# Altium schematic symbol library BRT_Components.SchLib: 323 symbols (part 4 of 4)
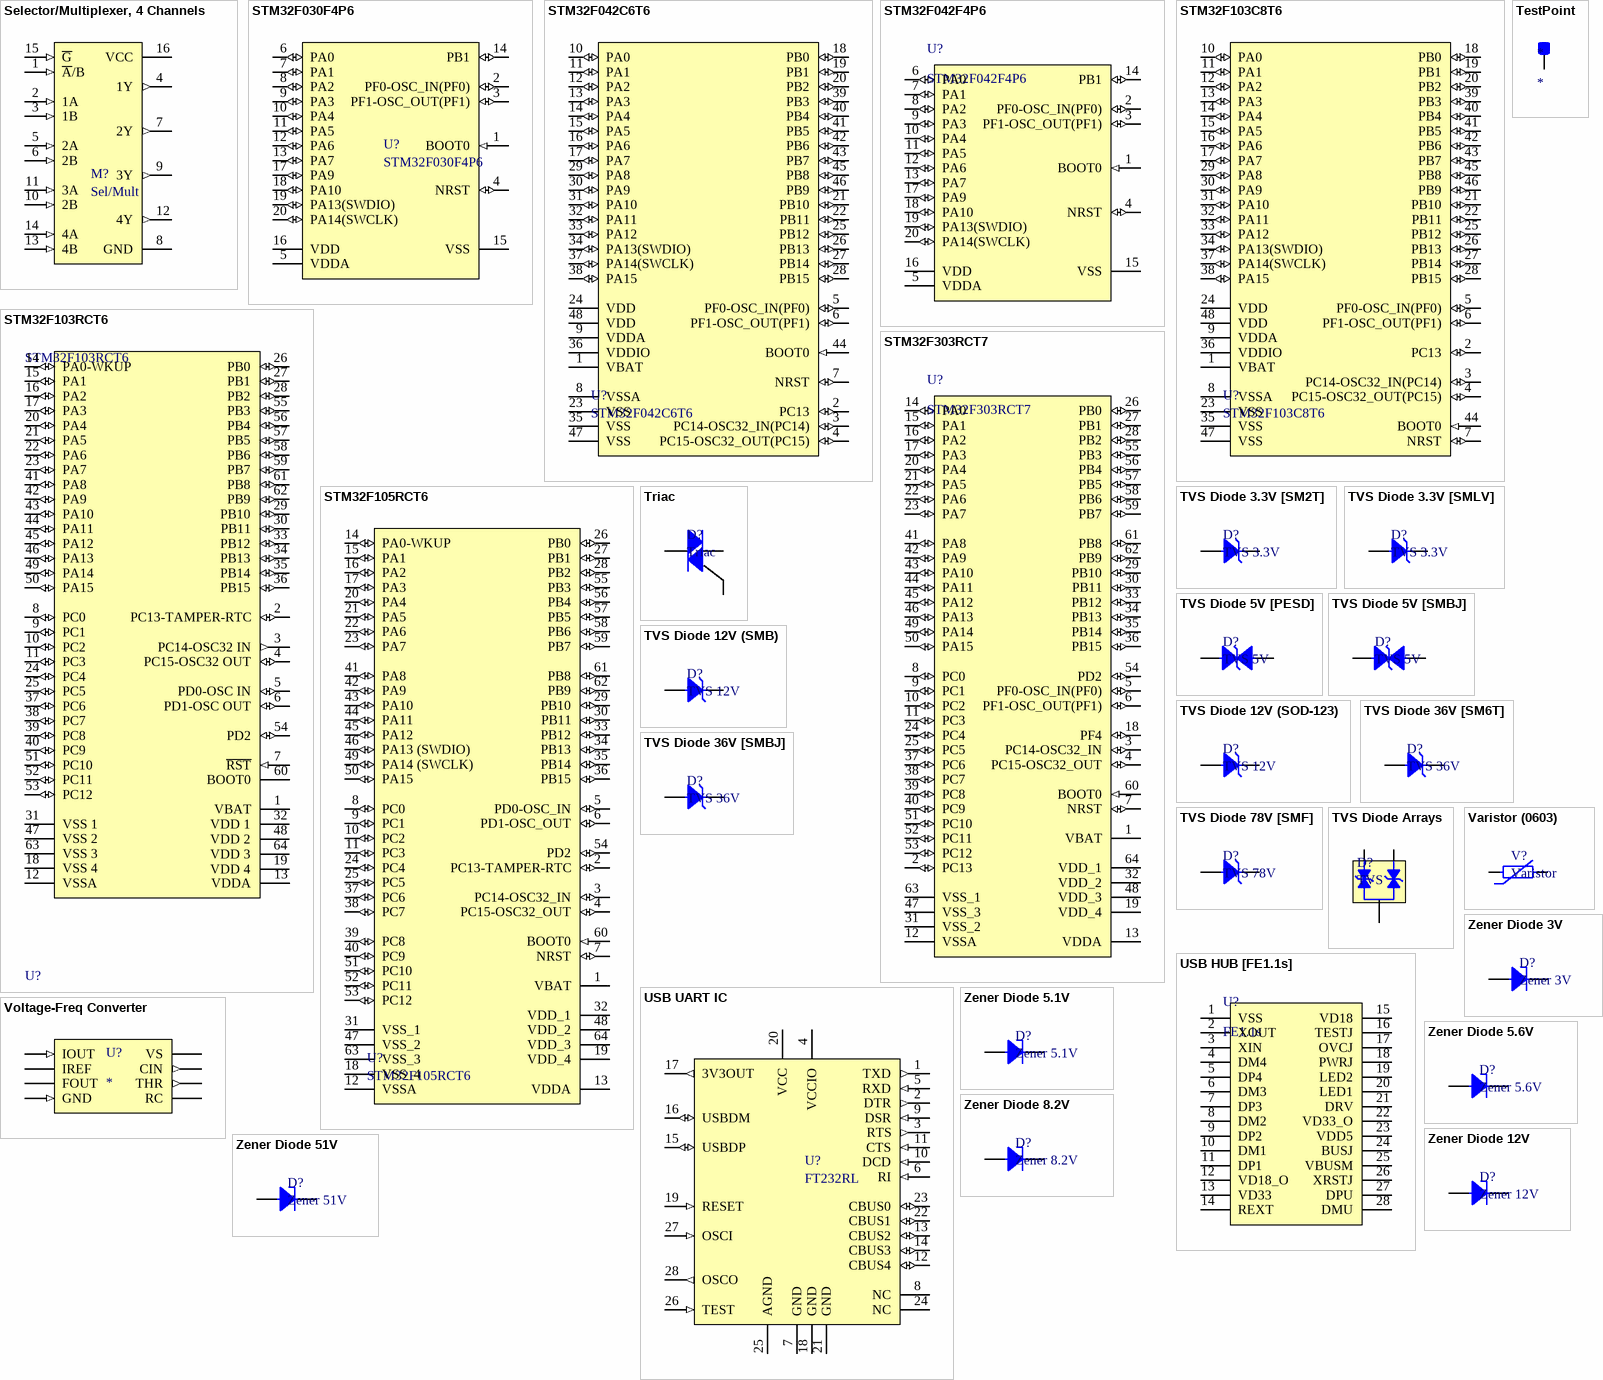
[diagram p11: symbols Selector/Multiplexer, 4 Channels to Zener Diode 51V]

## TVS Diode 78V [SMF]
designator D?, comment TVS 78V
175W; Part Number: SMF78A; Manufacturer: Yangzhou Yangjie Electronic Technology Co., Ltd.; Type: Diode; ComponentLink1Description: DataSheet; ComponentLink1URL: https://static.chipdip.ru/lib/152/DOC001152952.pdf; ComponentLink2Description: Chip&Dip; ComponentLink2URL: https://www.chipdip.ru/product/smf78a
footprint SOD-123FL
pins: 1, 2

## TVS Diode Arrays
designator D?, comment TVS
The SM24CANB TVS Diode Array is designed to protect automotive Controller Area Network (CAN) lines from damage due to electrostatic discharge (ESD), electrical fast transient (EFT), and other overvoltage transients.; Part Number: SM24CANB-02HTG; Manufacturer: Littelfuse; Type: Diode; ComponentLink1Description: DataSheet; ComponentLink1URL: https://m.littelfuse.com/~/media/electronics/datasheets/tvs_diode_arrays/littelfuse_tvs_diode_array_sm24canb_datasheet.pdf.pdf; ComponentLink2Description: Chip&Dip; ComponentLink2URL: https://www.chipdip.ru/product1/8001779022
footprint SOT-23
pins: 1, 2, 3

## USB HUB [FE1.1s]
designator U?, comment FE1.1s
USB 2.0 HIGH SPEED 4-PORT HUB CONTROLLER; Manufacturer: Terminus; ComponentLink1Description: Chip&Dip; ComponentLink1URL: https://www.chipdip.ru/product1/8004527874; ComponentLink2Description: Datasheet; ComponentLink2URL: https://cdn-shop.adafruit.com/product-files/2991/FE1.1s+Data+Sheet+(Rev.+1.0).pdf; Type: IC; Part Number: FE1.1S; ComponentLink3Description: TerraElectronica; ComponentLink3URL: https://www.terraelectronica.ru/product/2107905
footprint SSOP28 (SOP, 28-Leads, Body 10.2x5.3mm, Pitch 0.65mm, IPC Low Density)
pins: 1 VSS, 2 XOUT, 3 XIN, 4 DM4, 5 DP4, 6 DM3, 7 DP3, 8 DM2, 9 DP2, 10 DM1, 11 DP1, 12 VD18_O, 13 VD33, 14 REXT, 15 VD18, 16 TESTJ, 17 OVCJ, 18 PWRJ, 19 LED2, 20 LED1, 21 DRV, 22 VD33_O, 23 VDD5, 24 BUSJ, 25 VBUSM, 26 XRSTJ, 27 DPU, 28 DMU

## USB UART IC
designator U?, comment FT232RL
FTDI; Part Number: FT232RL-REEL; Manufacturer: Future Technology Devices; ComponentLink1Description: DataSheet; ComponentLink1URL: https://static.chipdip.ru/lib/222/DOC000222844.pdf; ComponentLink2Description: Chip&Dip; ComponentLink2URL: https://www.chipdip.ru/product/ft232rl; Type: IC
footprint SSOP28 (SOP, 28-Leads, Body 10.2x5.3mm, Pitch 0.65mm, IPC Low Density)
pins: 1 TXD (out), 2 DTR (out), 3 RTS (out), 4 VCCIO (power), 5 RXD (in), 6 RI (in), 7 GND (power), 8 NC, 9 DSR (in), 10 DCD (in), 11 CTS (in), 12 CBUS4 (io), 13 CBUS2 (io), 14 CBUS3 (io), 15 USBDP (io), 16 USBDM (io), 17 3V3OUT (out), 18 GND (power), 19 RESET (in), 20 VCC (power), 21 GND (power), 22 CBUS1 (io), 23 CBUS0 (io), 24 NC, 25 AGND (power), 26 TEST (in), 27 OSCI (in), 28 OSCO (out)

## Varistor (0603)
designator V?, comment Varistor
ESD Suppressor Multilayer Varistor 5V Automotive 2-Pin Case 0603 T/R; Part Number: CG0603MLC-05E; Manufacturer: Bourns; Type: Varistor; ComponentLink1Description: Chip&Dip; ComponentLink1URL: https://www.chipdip.ru/product1/8000649323?from=suggest_product
footprint 0603 Resistor
pins: 1, 2

## Voltage-Freq Converter
designator U?
The LM231/LM331 family of voltage-to-frequency convertersare ideally suited for use in simple low-cost circuits foranalog-to-digital conversion, precision frequency-to-voltageconversion, long-term integration, linear frequency modula-tion or demodulation, and many other functions. The outputwhen used as a voltage-to-frequency converter is a pulsetrain at a frequency precisely proportional to the appliedinput voltage. Thus, it provides all the inherent advantages ofthe voltage-to-frequency conversion techniques, and is easyto apply in all standard voltage-to-frequency converter appli-cations; Part Number: LM331N/NOPB; Manufacturer: Texas Instruments; ComponentLink1Description: ChipDip; ComponentLink1URL: https://www.chipdip.ru/product/lm331n-national; ComponentLink2Description: Datasheet; ComponentLink2URL: https://static.chipdip.ru/lib/142/DOC000142757.pdf; Type: Convector
footprint DIP8
pins: 1 IOUT (in), 2 IREF (oc), 3 FOUT (oc), 4 GND (in), 5 RC (power), 6 THR (out), 7 CIN (out), 8 VS (power)

## Zener Diode 3V
designator D?, comment Zener 3V
500mW; Part Number: MMSZ5225B; Manufacturer: Yangzhou Yangjie Electronic Technology; Type: Diode; ComponentLink1Description: Chip&Dip; ComponentLink1URL: https://www.chipdip.ru/product/mmsz5225b; ComponentLink2Description: DataSheet; ComponentLink2URL: https://static.chipdip.ru/lib/152/DOC001152772.pdf
footprint sod-123
pins: 1, 2

## Zener Diode 5.1V
designator D?, comment Zener 5.1V
300mW; Part Number: BZX384-C5V1,115; Manufacturer: Nexperia; Type: Diode; ComponentLink1Description: Chip&Dip; ComponentLink1URL: https://www.chipdip.ru/product/bzx384-c5v1; ComponentLink2Description: DataSheet; ComponentLink2URL: https://static.chipdip.ru/lib/164/DOC001164636.pdf
footprint sod-323
pins: 1, 2

## Zener Diode 5.6V
designator D?, comment Zener 5.6V
300mW; Part Number: BZX384-C5V6,115; Manufacturer: Nexperia; Type: Diode; ComponentLink1Description: Chip&Dip; ComponentLink1URL: https://www.chipdip.ru/product/bzx384-c5v6.115; ComponentLink2Description: DataSheet; ComponentLink2URL: http://www.farnell.com/datasheets/2174101.pdf
footprint sod-323
pins: 1, 2

## Zener Diode 8.2V
designator D?, comment Zener 8.2V
500mW; Part Number: MMSZ8V2T1G; Manufacturer: ON Semiconductor; Type: Diode; ComponentLink1Description: Chip&Dip; ComponentLink1URL: https://www.chipdip.ru/product/mmsz8v2t1g; ComponentLink2Description: DataSheet; ComponentLink2URL: https://static.chipdip.ru/lib/776/DOC002776192.pdf
footprint sod-123
pins: 1, 2

## Zener Diode 12V
designator D?, comment Zener 12V
300mW; Part Number: BZX384-C12,115; Manufacturer: NXP Semiconductor; Type: Diode; ComponentLink1Description: Chip&Dip; ComponentLink1URL: https://www.chipdip.ru/product/bzx384-c12.115; ComponentLink2Description: DataSheet; ComponentLink2URL: https://static.chipdip.ru/lib/583/DOC001583013.pdf
footprint sod-323
pins: 1, 2

## Zener Diode 51V
designator D?, comment Zener 51V
1W; Part Number: KC551A1; Manufacturer: Russia; Type: Diode; ComponentLink1Description: Chip&Dip; ComponentLink1URL: https://www.chipdip.ru/product/ks551a1
footprint KD-3A
pins: 1, 2